# Altium footprint library PcbLib1.PcbLib: 41 footprints (part 1 of 3)
Each footprint in its own frame and in the unit in brackets; x right, y up, seen from the top. Pads: shape width x height; smd on the part's side, far side on the other; paste and mask are expansions set on the pad; w line width, h text height; cw(c..) or ccw(c..) is an arc to the next point about the centre after c.
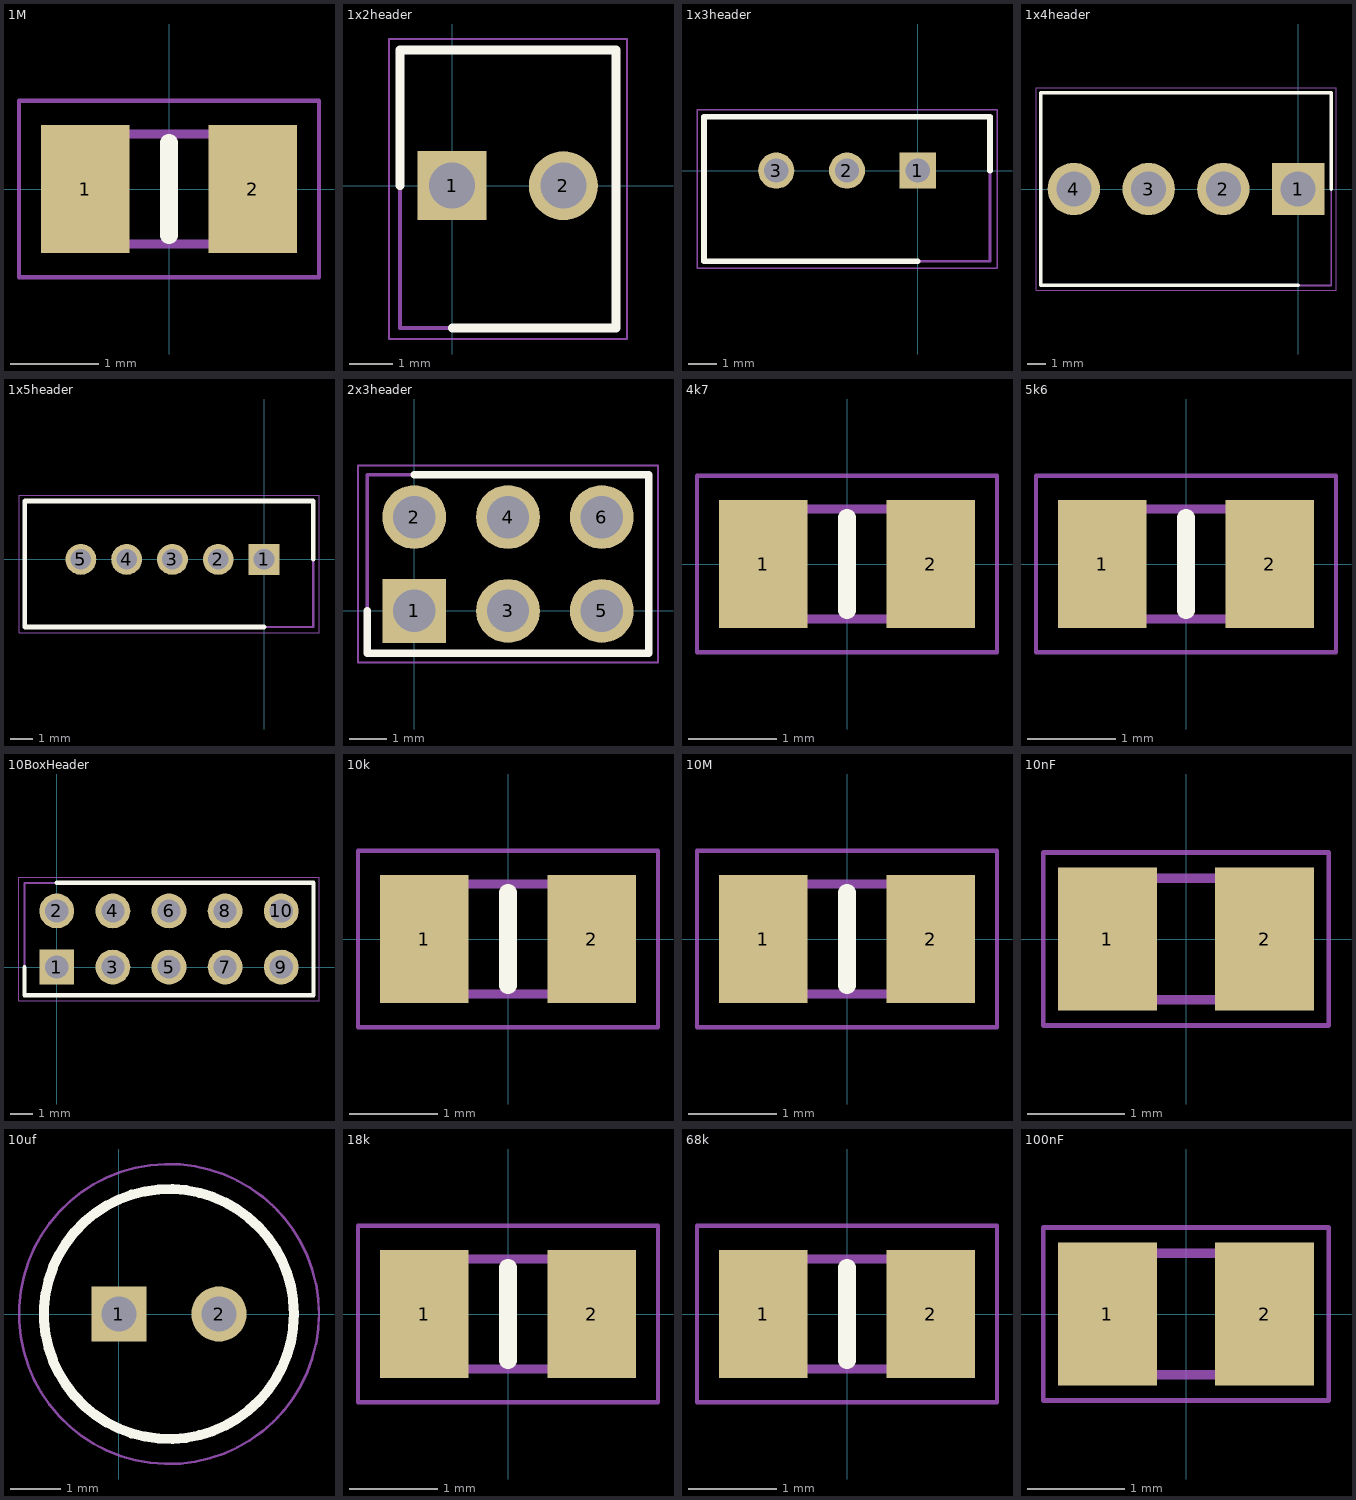
[diagram p0: the footprints below, top view; thin cyan lines are the x and y axes]

## 1M [mm]
pads (2):
  rect 1x1.45 smd: 1(-0.95,0) 2(0.95,0)
Top Overlay:
  lines w0.2: 0,-0.525 0,0.525
Mechanical 13:
  lines w0.1: -1,-0.625 -1,0.625 1,0.625 1,-0.625 -1,-0.625
Mechanical 15:
  lines w0.05: -1.7,-1 -1.7,1 1.7,1 1.7,-1 -1.7,-1
3D body "CPF0805B100RE1.stp": height 0.65, standoff 0, extent -1,-0.625 1,0.625

## 1x2header [mm]
pads (2):
  rect 1.575x1.575 hole 1.05: 1(0,0)
  round 1.575 hole 1.05: 2(2.54,0)
Top Overlay:
  lines w0.2: -1.19,0 -1.19,3.1 3.74,3.1 3.74,-3.25 0,-3.25
Mechanical 13:
  lines w0.1: -1.19,-3.25 3.74,-3.25 3.74,3.1 -1.19,3.1 -1.19,-3.25
Mechanical 15:
  lines w0.05: -1.44,-3.5 3.99,-3.5 3.99,3.35 -1.44,3.35 -1.44,-3.5
3D body "0022232021.stp": height 11.05, standoff -3.56, extent -1.19,-3.25 3.74,3.1

## 1x3header [mm]
pads (3):
  rect 1.275x1.275 hole 0.85: 1(0,0)
  round 1.275 hole 0.85: 2(-2.5,0) 3(-5,0)
Top Overlay:
  lines w0.2: 0,-3.2 -7.55,-3.2 -7.55,1.9 2.55,1.9 2.55,0
Mechanical 13:
  lines w0.1: -7.55,-3.2 -7.55,1.9 2.55,1.9 2.55,-3.2 -7.55,-3.2
Mechanical 15:
  lines w0.05: -7.8,-3.45 -7.8,2.15 2.8,2.15 2.8,-3.45 -7.8,-3.45
3D body "0022035035.stp": height 6.1, standoff -4.1, extent -7.45,-2.45 2.45,2.45

## 1x4header [mm]
pads (4):
  rect 2.775x2.775 hole 1.85: 1(0,0)
  round 2.775 hole 1.85: 2(-3.96,0) 3(-7.92,0) 4(-11.88,0)
Top Overlay:
  lines w0.2: 0,-5.1 -13.63,-5.1 -13.63,5.1 1.75,5.1 1.75,0
Mechanical 13:
  lines w0.1: -13.63,-5.1 -13.63,5.1 1.75,5.1 1.75,-5.1 -13.63,-5.1
Mechanical 15:
  lines w0.05: -13.88,-5.35 -13.88,5.35 2,5.35 2,-5.35 -13.88,-5.35
3D body "0009652048.stp": height 14.25, standoff -4.2, extent -13.48,-5.1 1.6,5.1

## 1x5header [mm]
pads (5):
  rect 1.35x1.35 hole 0.9: 1(0,0)
  round 1.35 hole 0.9: 2(-2,0) 3(-4,0) 4(-6,0) 5(-8,0)
Top Overlay:
  lines w0.2: 0,-2.95 -10.45,-2.95 -10.45,2.55 2.15,2.55 2.15,0
Mechanical 13:
  lines w0.1: -10.45,-2.95 2.15,-2.95 2.15,2.55 -10.45,2.55 -10.45,-2.95
Mechanical 15:
  lines w0.05: -10.7,-3.2 2.4,-3.2 2.4,2.8 -10.7,2.8 -10.7,-3.2
3D body "0353620550.stp": height 8.5, standoff -3.8, extent -10.15,-2.75 2.15,2.75

## 2x3header [mm]
pads (6):
  rect 1.725x1.725 hole 1.15: 1(0,0)
  round 1.725 hole 1.15: 2(0,2.54) 3(2.54,0) 4(2.54,2.54) 5(5.08,0) 6(5.08,2.54)
Top Overlay:
  lines w0.2: -1.27,0 -1.27,-1.145 6.35,-1.145 6.35,3.685 0,3.685
Mechanical 13:
  lines w0.1: -1.27,-1.145 -1.27,3.685 6.35,3.685 6.35,-1.145 -1.27,-1.145
Mechanical 15:
  lines w0.05: -1.52,-1.395 -1.52,3.935 6.6,3.935 6.6,-1.395 -1.52,-1.395
3D body "10129381-906002BLF.stp": height 8.58, standoff -2.54, extent -1.27,-1.145 6.35,3.685

## 4k7 [mm]
pads (2):
  rect 1x1.45 smd: 1(-0.95,0) 2(0.95,0)
Top Overlay:
  lines w0.2: 0,-0.525 0,0.525
Mechanical 13:
  lines w0.1: -1,-0.625 1,-0.625 1,0.625 -1,0.625 -1,-0.625
Mechanical 15:
  lines w0.05: -1.7,-1 1.7,-1 1.7,1 -1.7,1 -1.7,-1
3D body "CPF0805B100RE1.stp": height 0.65, standoff 0, extent -1,-0.625 1,0.625

## 5k6 [mm]
pads (2):
  rect 1x1.45 smd: 1(-0.95,0) 2(0.95,0)
Top Overlay:
  lines w0.2: 0,-0.525 0,0.525
Mechanical 13:
  lines w0.1: -1,-0.625 -1,0.625 1,0.625 1,-0.625 -1,-0.625
Mechanical 15:
  lines w0.05: -1.7,-1 -1.7,1 1.7,1 1.7,-1 -1.7,-1
3D body "CPF0805B100RE1.stp": height 0.65, standoff 0, extent -1,-0.625 1,0.625

## 10BoxHeader [mm]
pads (10):
  rect 1.575x1.575 hole 1.05: 1(0,0)
  round 1.575 hole 1.05: 2(0,2.54) 3(2.54,0) 4(2.54,2.54) 5(5.08,0) 6(5.08,2.54) 7(7.62,0) 8(7.62,2.54) 9(10.16,0) 10(10.16,2.54)
Top Overlay:
  lines w0.2: -1.46,0 -1.46,-1.27 11.62,-1.27 11.62,3.81 0,3.81
Mechanical 13:
  lines w0.1: -1.46,-1.27 11.62,-1.27 11.62,3.81 -1.46,3.81 -1.46,-1.27
Mechanical 15:
  lines w0.05: -1.71,-1.52 11.87,-1.52 11.87,4.06 -1.71,4.06 -1.71,-1.52
3D body "0010897100.stp": height 8.64, standoff -2.72, extent -1.27,-1.27 11.43,3.81

## 10k [mm]
pads (2):
  rect 1x1.45 smd: 1(-0.95,0) 2(0.95,0)
Top Overlay:
  lines w0.2: 0,-0.525 0,0.525
Mechanical 13:
  lines w0.1: -1,-0.625 -1,0.625 1,0.625 1,-0.625 -1,-0.625
Mechanical 15:
  lines w0.05: -1.7,-1 -1.7,1 1.7,1 1.7,-1 -1.7,-1
3D body "CPF0805B100RE1.stp": height 0.65, standoff 0, extent -1,-0.625 1,0.625

## 10M [mm]
pads (2):
  rect 1x1.45 smd: 1(-0.95,0) 2(0.95,0)
Top Overlay:
  lines w0.2: 0,-0.525 0,0.525
Mechanical 13:
  lines w0.1: -1,-0.625 -1,0.625 1,0.625 1,-0.625 -1,-0.625
Mechanical 15:
  lines w0.05: -1.7,-1 -1.7,1 1.7,1 1.7,-1 -1.7,-1
3D body "CPF0805B100RE1.stp": height 0.65, standoff 0, extent -1,-0.625 1,0.625

## 10nF [mm]
pads (2):
  rect 1.02x1.47 smd: 1(-0.81,0) 2(0.81,0)
Mechanical 13:
  lines w0.1: -1.005,-0.625 -1.005,0.625 1.005,0.625 1.005,-0.625 -1.005,-0.625
Mechanical 15:
  lines w0.05: -1.47,-0.89 -1.47,0.89 1.47,0.89 1.47,-0.89 -1.47,-0.89
3D body "08055A130JAT2A.stp": height 0.94, standoff 0, extent -1.005,-0.625 1.005,0.625

## 10uf [mm]
pads (2):
  rect 1.1x1.1 hole 0.7: 1(0,0)
  round 1.1 hole 0.7: 2(2,0)
Top Overlay:
  circle w0.2: c1,0 r2.5
Mechanical 13:
  circle w0.1: c1,0 r2.5
Mechanical 15:
  circle w0.05: c1,0 r3

## 18k [mm]
pads (2):
  rect 1x1.45 smd: 1(-0.95,0) 2(0.95,0)
Top Overlay:
  lines w0.2: 0,-0.525 0,0.525
Mechanical 13:
  lines w0.1: -1,-0.625 1,-0.625 1,0.625 -1,0.625 -1,-0.625
Mechanical 15:
  lines w0.05: -1.7,-1 1.7,-1 1.7,1 -1.7,1 -1.7,-1
3D body "CPF0805B100RE1.stp": height 0.65, standoff 0, extent -1,-0.625 1,0.625

## 68k [mm]
pads (2):
  rect 1x1.45 smd: 1(-0.95,0) 2(0.95,0)
Top Overlay:
  lines w0.2: 0,-0.525 0,0.525
Mechanical 13:
  lines w0.1: -1,-0.625 -1,0.625 1,0.625 1,-0.625 -1,-0.625
Mechanical 15:
  lines w0.05: -1.7,-1 -1.7,1 1.7,1 1.7,-1 -1.7,-1
3D body "CPF0805B100RE1.stp": height 0.65, standoff 0, extent -1,-0.625 1,0.625

## 100nF [mm]
pads (2):
  rect 1.02x1.47 smd: 1(-0.81,0) 2(0.81,0)
Mechanical 13:
  lines w0.1: -1.005,-0.625 -1.005,0.625 1.005,0.625 1.005,-0.625 -1.005,-0.625
Mechanical 15:
  lines w0.05: -1.47,-0.89 -1.47,0.89 1.47,0.89 1.47,-0.89 -1.47,-0.89
3D body "08055A130JAT2A.stp": height 0.94, standoff 0, extent -1.005,-0.625 1.005,0.625